# Altium integrated library Gennum Power Amplifier.IntLib: 4 symbols
Pins are listed as number, name and electrical type; pins without a type are passive.

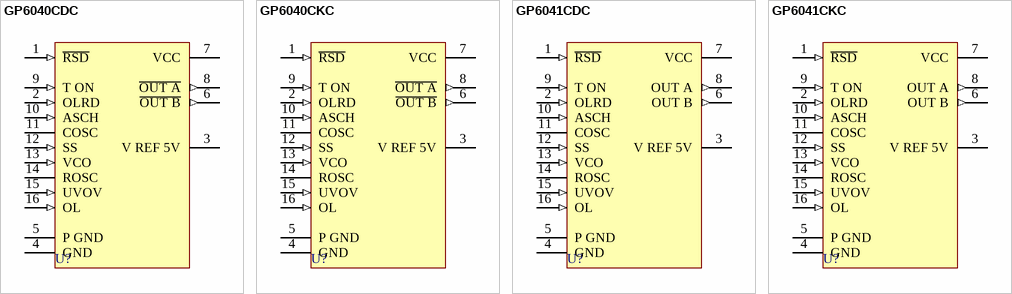
[diagram p0: symbols GP6040CDC to GP6041CKC]

## GP6040CDC
designator U?
Single-ended ZCS Resonant Mode Power Supply Controller; Published: 8-Jun-2000; LatestRevisionDate: 04-Mar-2005; LatestRevisionNote: Stylized 3D Model Added.; PackageVersion: 1999; PackageReference: PDIP16; Publisher: Altium Limited; PackageDescription: DIP; 16 Leads; Row Spacing 7.62 mm; Pitch 2.54 mm; ComponentLink1Description: Manufacturer Link; ComponentLink1URL: http://www.gennum.com/index.html
footprint PDIP16 (DIP; 16 Leads; Row Spacing 7.62 mm; Pitch 2.54 mm)
3D model PDIP16 (DIP; 16 Leads; Row Spacing 7.62 mm; Pitch 2.54 mm)
pins: 1 ~{RSD} (in), 2 OLRD (in), 3 V REF 5V, 4 GND (power), 5 P GND (power), 6 ~{OUT B} (out), 7 VCC (power), 8 ~{OUT A} (out), 9 T ON (in), 10 ASCH (in), 11 COSC, 12 SS (in), 13 VCO (in), 14 ROSC, 15 UVOV (in), 16 OL (in)

## GP6040CKC
designator U?
Single-ended ZCS Resonant Mode Power Supply Controller; Published: 8-Jun-2000; LatestRevisionDate: 13-Apr-2006; LatestRevisionNote: IPC-7351 Footprint Added.; PackageReference: SOIC16; Publisher: Altium Limited; PackageDescription: 16-Pin Small Outline Integrated Circuit 1.27 mm Pitch; Code_JEDEC: MS-012-AC; Code_IPC: SOIC127P600-16; ComponentLink1Description: Manufacturer Link; ComponentLink1URL: http://www.gennum.com/index.html
footprint SOIC16_N (SOIC, 16-Leads, Body 9.9x3.9mm, Pitch 1.27mm, IPC Medium Density)
footprint SOIC16_L (SOIC, 16-Leads, Body 9.9x3.9mm, Pitch 1.27mm, IPC High Density)
footprint SOIC16_M (SOIC, 16-Leads, Body 9.9x3.9mm, Pitch 1.27mm, IPC Low Density)
3D model SOIC16 (16-Pin Small Outline Integrated Circuit 1.27 mm Pitch)
pins: 1 ~{RSD} (in), 2 OLRD (in), 3 V REF 5V, 4 GND (power), 5 P GND (power), 6 ~{OUT B} (out), 7 VCC (power), 8 ~{OUT A} (out), 9 T ON (in), 10 ASCH (in), 11 COSC, 12 SS (in), 13 VCO (in), 14 ROSC, 15 UVOV (in), 16 OL (in)

## GP6041CDC
designator U?
Single-ended ZCS Resonant Mode Power Supply Controller; Published: 8-Jun-2000; LatestRevisionDate: 04-Mar-2005; LatestRevisionNote: Stylized 3D Model Added.; PackageVersion: 1999; PackageReference: PDIP16; Publisher: Altium Limited; PackageDescription: DIP; 16 Leads; Row Spacing 7.62 mm; Pitch 2.54 mm; ComponentLink1Description: Manufacturer Link; ComponentLink1URL: http://www.gennum.com/index.html
footprint PDIP16 (DIP; 16 Leads; Row Spacing 7.62 mm; Pitch 2.54 mm)
3D model PDIP16 (DIP; 16 Leads; Row Spacing 7.62 mm; Pitch 2.54 mm)
pins: 1 ~{RSD} (in), 2 OLRD (in), 3 V REF 5V, 4 GND (power), 5 P GND (power), 6 OUT B (out), 7 VCC (power), 8 OUT A (out), 9 T ON (in), 10 ASCH (in), 11 COSC, 12 SS (in), 13 VCO (in), 14 ROSC, 15 UVOV (in), 16 OL (in)

## GP6041CKC
designator U?
Single-ended ZCS Resonant Mode Power Supply Controller; Published: 8-Jun-2000; LatestRevisionDate: 13-Apr-2006; LatestRevisionNote: IPC-7351 Footprint Added.; PackageReference: SOIC16; Publisher: Altium Limited; PackageDescription: 16-Pin Small Outline Integrated Circuit 1.27 mm Pitch; Code_JEDEC: MS-012-AC; Code_IPC: SOIC127P600-16; ComponentLink1Description: Manufacturer Link; ComponentLink1URL: http://www.gennum.com/index.html
footprint SOIC16_N (SOIC, 16-Leads, Body 9.9x3.9mm, Pitch 1.27mm, IPC Medium Density)
footprint SOIC16_L (SOIC, 16-Leads, Body 9.9x3.9mm, Pitch 1.27mm, IPC High Density)
footprint SOIC16_M (SOIC, 16-Leads, Body 9.9x3.9mm, Pitch 1.27mm, IPC Low Density)
3D model SOIC16 (16-Pin Small Outline Integrated Circuit 1.27 mm Pitch)
pins: 1 ~{RSD} (in), 2 OLRD (in), 3 V REF 5V, 4 GND (power), 5 P GND (power), 6 OUT B (out), 7 VCC (power), 8 OUT A (out), 9 T ON (in), 10 ASCH (in), 11 COSC, 12 SS (in), 13 VCO (in), 14 ROSC, 15 UVOV (in), 16 OL (in)